# EAGLE library part MS5611-01BA03 (library MS5611-01BA03)
Barometric Pressure Sensor, with stainless steel cap
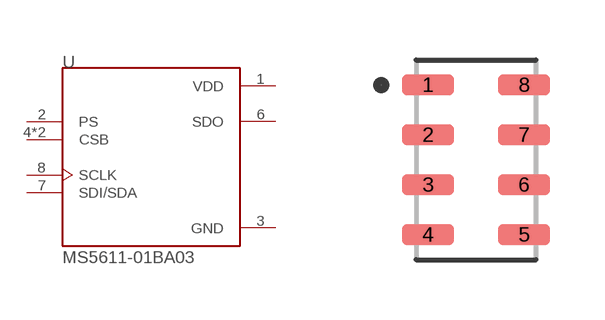
[diagram p0: symbol with the pads of SON125P500X300X100-8N; footprint SON125P500X300X100-8N]

Designator prefix U

## MS5611-01BA03 (Availability: Unavailable; Description: Pressure Sensor 1.44V to 3.6V 0.01bar to 1.2bar Absolute 8-Pin SMT T/R; MF: TE Connectivity; MP: MS5611-01BA03; Package: SMD-8 TE Connectivity; Price: None)  [SON125P500X300X100-8N]
1  VDD  pwr
2  PS  in
3  GND  pwr
4  CSB  in
5  CSB  in
6  SDO  out
7  SDI/SDA
8  SCLK  in

## Footprint SON125P500X300X100-8N (pad centres in mm)
smd 1.31 x 0.53: 1 -1.2,1.875; 2 -1.2,0.625; 3 -1.2,-0.625; 4 -1.2,-1.875; 5 1.2,-1.875; 6 1.2,-0.625; 7 1.2,0.625; 8 1.2,1.875